# Altium footprint library WE-PD2.PcbLib: 5 footprints
Each footprint in its own frame and in the unit in brackets; x right, y up, seen from the top. Pads: shape width x height; smd on the part's side, far side on the other; paste and mask are expansions set on the pad; w line width, h text height; cw(c..) or ccw(c..) is an arc to the next point about the centre after c.
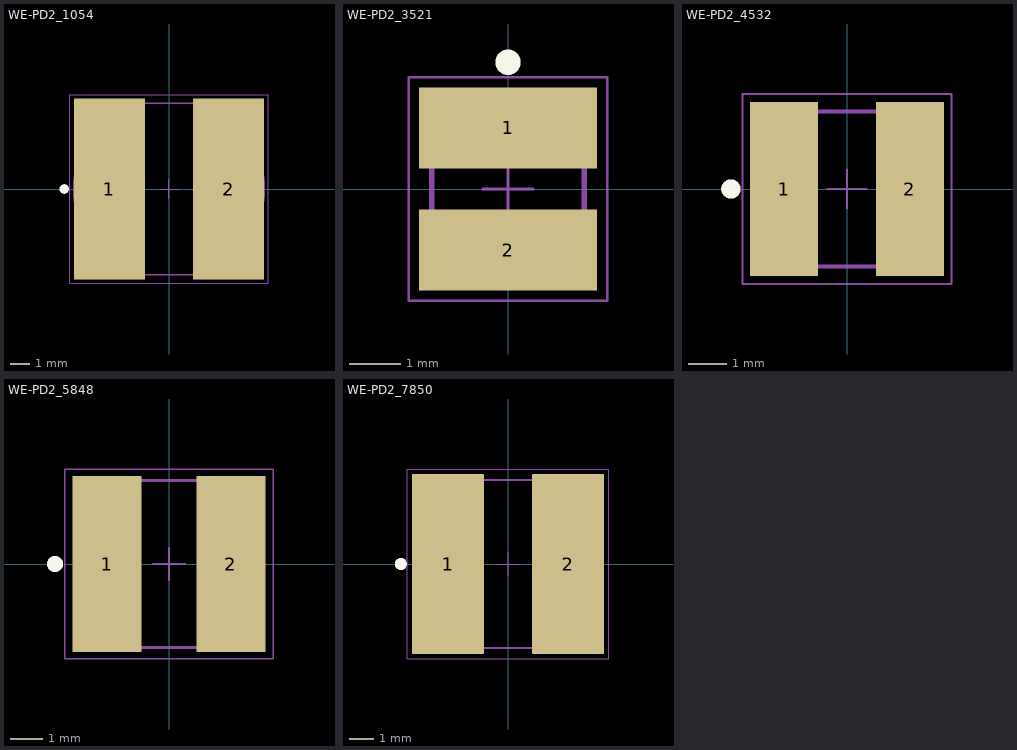
[diagram p0: the footprints below, top view; thin cyan lines are the x and y axes]

## WE-PD2_1054 [mm] "SMD Power Inductor, 2-Leads, body 10x9mm"
height 5.4
pads (2):
  rect 3.75x9.5 smd: 1(-3.125,0) 2(3.125,0)
Top Overlay:
  circle w0.25: c-5.5,0 r0.125
Top Designator:
  text ".Designator" at -7.498,-0.5 h1.5
Top Component Outline:
  circle w0.1: c-3.8,0 r0.5
  lines w0.1: -1.75,-4.5 cw(c-0.26,0) -1.75,4.5 1.75,4.5 cw(c0.26,0) 1.75,-4.5 -1.75,-4.5
Top 3D Body:
  circle w0.1: c-3.8,0 r0.5
  lines w0.1: -1.75,-4.5 cw(c-0.26,0) -1.75,4.5 1.75,4.5 cw(c0.26,0) 1.75,-4.5 -1.75,-4.5
Top Courtyard:
  lines w0.05: -0.5,0 0.5,0 ; 0,-0.5 0,0.5 ; -5.2,-4.95 5.2,-4.95 5.2,4.95 -5.2,4.95 -5.2,-4.95
3D body "744776xx.stp": height 5.43, standoff 0.03, extent -5.045,-4.5 5.044,4.5

## WE-PD2_3521 [mm] "SMD Power Inductor, 2-Leads, body 3x3.5mm"
height 2.4
pads (2):
  rect 3.5x1.6 smd: 1(0,1.2) 2(0,-1.2)
Top Overlay:
  circle w0.25: c0,2.493 r0.125
Top Designator:
  text ".Designator" at -3.499,-0.233 h0.7
Top Component Outline:
  circle w0.1: c0,1.15 r0.2
  lines w0.1: -1.5,-0.8 ccw(c0,-0.091) 1.5,-0.8 1.5,0.8 ccw(c0,0.091) -1.5,0.8 -1.5,-0.8
Top 3D Body:
  circle w0.1: c0,1.15 r0.2
  lines w0.1: -1.5,-0.8 ccw(c0,-0.091) 1.5,-0.8 1.5,0.8 ccw(c0,0.091) -1.5,0.8 -1.5,-0.8
Top Courtyard:
  lines w0.05: -0.5,0 0.5,0 ; 0,-0.5 0,0.5 ; -1.95,-2.2 1.95,-2.2 1.95,2.2 -1.95,2.2 -1.95,-2.2
3D body "744773xxx.stp": height 2.12, standoff 0.03, extent -1.5,-1.675 1.5,1.675

## WE-PD2_4532 [mm] "SMD Power Inductor, 2-Leads, body 4.5x4mm"
height 3.5
pads (2):
  rect 1.75x4.5 smd: 1(-1.625,0) 2(1.625,0)
Top Overlay:
  circle w0.25: c-3,0 r0.125
Top Designator:
  text ".Designator" at -4.998,-0.333 h1
Top Component Outline:
  circle w0.1: c-1.7,0 r0.25
  lines w0.1: -1,-2 cw(c-0.025,0) -1,2 1,2 cw(c0.025,0) 1,-2 -1,-2
Top 3D Body:
  circle w0.1: c-1.7,0 r0.25
  lines w0.1: -1,-2 cw(c-0.025,0) -1,2 1,2 cw(c0.025,0) 1,-2 -1,-2
Top Courtyard:
  lines w0.05: -0.5,0 0.5,0 ; 0,-0.5 0,0.5 ; -2.7,-2.45 2.7,-2.45 2.7,2.45 -2.7,2.45 -2.7,-2.45
3D body "744773xxx.stp": height 3.22, standoff 0.02, extent -2.25,-2 2.25,2

## WE-PD2_5848 [mm] "SMD Power Inductor, 2-Leads, body 5.8x5.2mm"
height 4.85
pads (2):
  rect 2.15x5.5 smd: 1(-1.925,0) 2(1.925,0)
Top Overlay:
  circle w0.25: c-3.55,0 r0.125
Top Designator:
  text ".Designator" at -7.498,-0.5 h1.5
Top Component Outline:
  circle w0.1: c-2.3,0 r0.25
  lines w0.1: -1.5,-2.6 cw(c0.214,0) -1.5,2.6 1.5,2.6 cw(c-0.214,0) 1.5,-2.6 -1.5,-2.6
Top 3D Body:
  circle w0.1: c-2.3,0 r0.25
  lines w0.1: -1.5,-2.6 cw(c0.214,0) -1.5,2.6 1.5,2.6 cw(c-0.214,0) 1.5,-2.6 -1.5,-2.6
Top Courtyard:
  lines w0.05: -0.5,0 0.5,0 ; 0,-0.5 0,0.5 ; -3.25,-2.95 3.25,-2.95 3.25,2.95 -3.25,2.95 -3.25,-2.95
3D body "744774xx.stp": height 4.48, standoff -0.02, extent -2.898,-2.6 2.889,2.6

## WE-PD2_7850 [mm] "SMD Power Inductor, 2-Leads, body 7.8x7mm"
height 5.45
pads (2):
  rect 3x7.5 smd: 1(-2.5,0) 2(2.5,0)
Top Overlay:
  circle w0.25: c-4.467,0 r0.125
Top Designator:
  text ".Designator" at -7.498,-0.5 h1.5
Top Component Outline:
  circle w0.1: c-3.3,0 r0.25
  lines w0.1: -1.7,-3.5 cw(c-0.016,0) -1.7,3.5 1.7,3.5 cw(c0.016,0) 1.7,-3.5 -1.7,-3.5
Top 3D Body:
  circle w0.1: c-3.3,0 r0.25
  lines w0.1: -1.7,-3.5 cw(c-0.016,0) -1.7,3.5 1.7,3.5 cw(c0.016,0) 1.7,-3.5 -1.7,-3.5
Top Courtyard:
  lines w0.05: -0.5,0 0.5,0 ; 0,-0.5 0,0.5 ; -4.2,-3.95 4.2,-3.95 4.2,3.95 -4.2,3.95 -4.2,-3.95
3D body "744775xx.stp": height 4.95, standoff 0, extent -3.813,-3.5 3.813,3.5